# EAGLE library part SN74LS07DBR (library SN74LS07DBRDB14L)
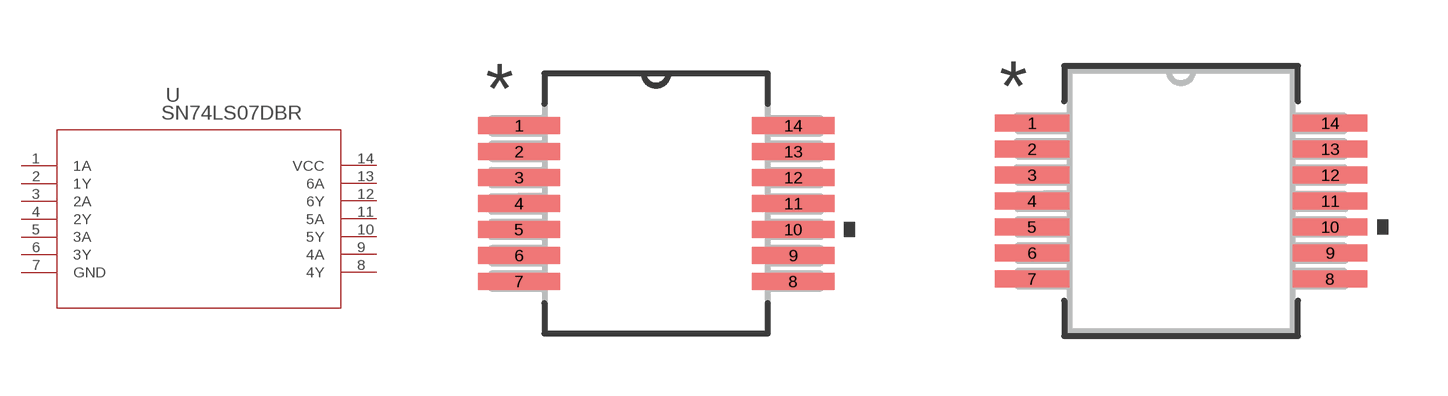
[diagram p0: symbol with the pads of DB14; footprints DB14, DB14-M]

Designator prefix U

## SN74LS07DBR (DATASHEET_URL: http://www.ti.com/lit/gpn/SN74LS07; DESCRIPTION: Hex Buffers / Drivers with Open-Collector High-Vltage Outputs; FAMILY_NAME: NON-INVERTING BUFFER/DRIVER; GENERIC_PART_NUMBER: SN74LS07; INDUSTRY_STD_PKG_TYPE: SSOP; MANUFACTURER: Texas Instruments; PACKAGE_DESIGNATOR: DB; PIN_COUNT: 14)  [DB14]
1  1A  in
2  1Y  out
3  2A  in
4  2Y  out
5  3A  in
6  3Y  out
7  GND  pwr
8  4Y  out
9  4A  in
10  5Y  out
11  5A  in
12  6Y  out
13  6A  in
14  VCC  pwr

## SN74LS07DBRDB14-M (DATASHEET_URL: http://www.ti.com/lit/gpn/SN74LS07; DESCRIPTION: Hex Buffers / Drivers with Open-Collector High-Vltage Outputs; FAMILY_NAME: NON-INVERTING BUFFER/DRIVER; GENERIC_PART_NUMBER: SN74LS07; INDUSTRY_STD_PKG_TYPE: SSOP; MANUFACTURER: Texas Instruments; PACKAGE_DESIGNATOR: DB; PIN_COUNT: 14)  [DB14-M]
Pads as for DB14

## SN74LS07DBRDB14-L (DATASHEET_URL: http://www.ti.com/lit/gpn/SN74LS07; DESCRIPTION: Hex Buffers / Drivers with Open-Collector High-Vltage Outputs; FAMILY_NAME: NON-INVERTING BUFFER/DRIVER; GENERIC_PART_NUMBER: SN74LS07; INDUSTRY_STD_PKG_TYPE: SSOP; MANUFACTURER: Texas Instruments; PACKAGE_DESIGNATOR: DB; PIN_COUNT: 14)  [DB14-L]
Pads as for DB14

## Footprint DB14 (pad centres in mm)
smd 2.057 x 0.432: 1 -3.429,1.95; 2 -3.429,1.3; 3 -3.429,0.65; 4 -3.429,0; 5 -3.429,-0.65; 6 -3.429,-1.3; 7 -3.429,-1.95; 8 3.429,-1.95; 9 3.429,-1.3; 10 3.429,-0.65; 11 3.429,0; 12 3.429,0.65; 13 3.429,1.3; 14 3.429,1.95

## Footprint DB14-M (pad centres in mm)
smd 1.867 x 0.432: 1 -3.727,1.95; 2 -3.727,1.3; 3 -3.727,0.65; 4 -3.727,0; 5 -3.727,-0.65; 6 -3.727,-1.3; 7 -3.727,-1.95; 8 3.727,-1.95; 9 3.727,-1.3; 10 3.727,-0.65; 11 3.727,0; 12 3.727,0.65; 13 3.727,1.3; 14 3.727,1.95

## Footprint DB14-L (pad centres in mm)
smd 1.346 x 0.381: 1 -3.581,1.95; 2 -3.581,1.3; 3 -3.581,0.65; 4 -3.581,0; 5 -3.581,-0.65; 6 -3.581,-1.3; 7 -3.581,-1.95; 8 3.581,-1.95; 9 3.581,-1.3; 10 3.581,-0.65; 11 3.581,0; 12 3.581,0.65; 13 3.581,1.3; 14 3.581,1.95